# EAGLE library part LT3479 (library OSSI)
LT3479 inverting switching convertor Input Voltage Range: 2.5V to 24V 3A, 42V Internal Switch Efﬁciency Power Conversion: Up to 89% Soft-Start Frequency Set by External Resistor: 200kHz to 3.5MHz Protection Against Input Short Circuits and Hot Plugging
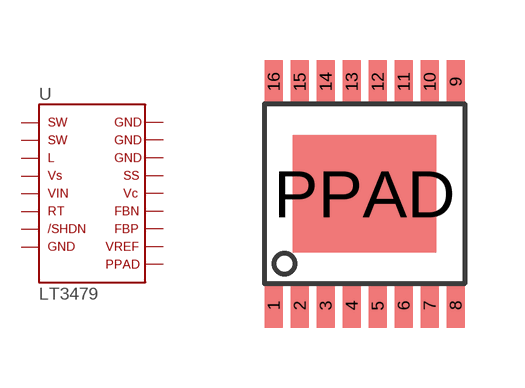
[diagram p24: symbol with the pads of TSSOP16-FE; footprint TSSOP16-FE]

Designator prefix U

## LT3479  [TSSOP16-FE]
1  P$1  pwr
2  P$2  pwr
3  P$3  pas
4  P$4  pwr
5  P$5  pwr
6  P$6  pas
7  P$7  in
8  P$8  pwr
9  P$9  out
10  P$10  in
11  P$11  in
12  P$12  in
13  P$13  in
14  P$14  pwr
15  P$15  pwr
16  P$16  pwr
PPAD  P$17  pwr

## Footprint TSSOP16-FE (pad centres in mm)
smd 0.45 x 1.1: 1 -2.275,-2.8; 2 -1.625,-2.8; 3 -0.975,-2.8; 4 -0.325,-2.8; 5 0.325,-2.8; 6 0.975,-2.8; 7 1.625,-2.8; 8 2.275,-2.8; 9 2.275,2.8; 10 1.625,2.8; 11 0.975,2.8; 12 0.325,2.8; 13 -0.325,2.8; 14 -0.975,2.8; 15 -1.625,2.8; 16 -2.275,2.8
smd 3.58 x 2.94: PPAD 0,0